# Altium footprint library SparkFun-MicroMod.PCBLIB: 11 footprints
Each footprint in its own frame and in the unit in brackets; x right, y up, seen from the top. Pads: shape width x height; smd on the part's side, far side on the other; paste and mask are expansions set on the pad; w line width, h text height; cw(c..) or ccw(c..) is an arc to the next point about the centre after c.
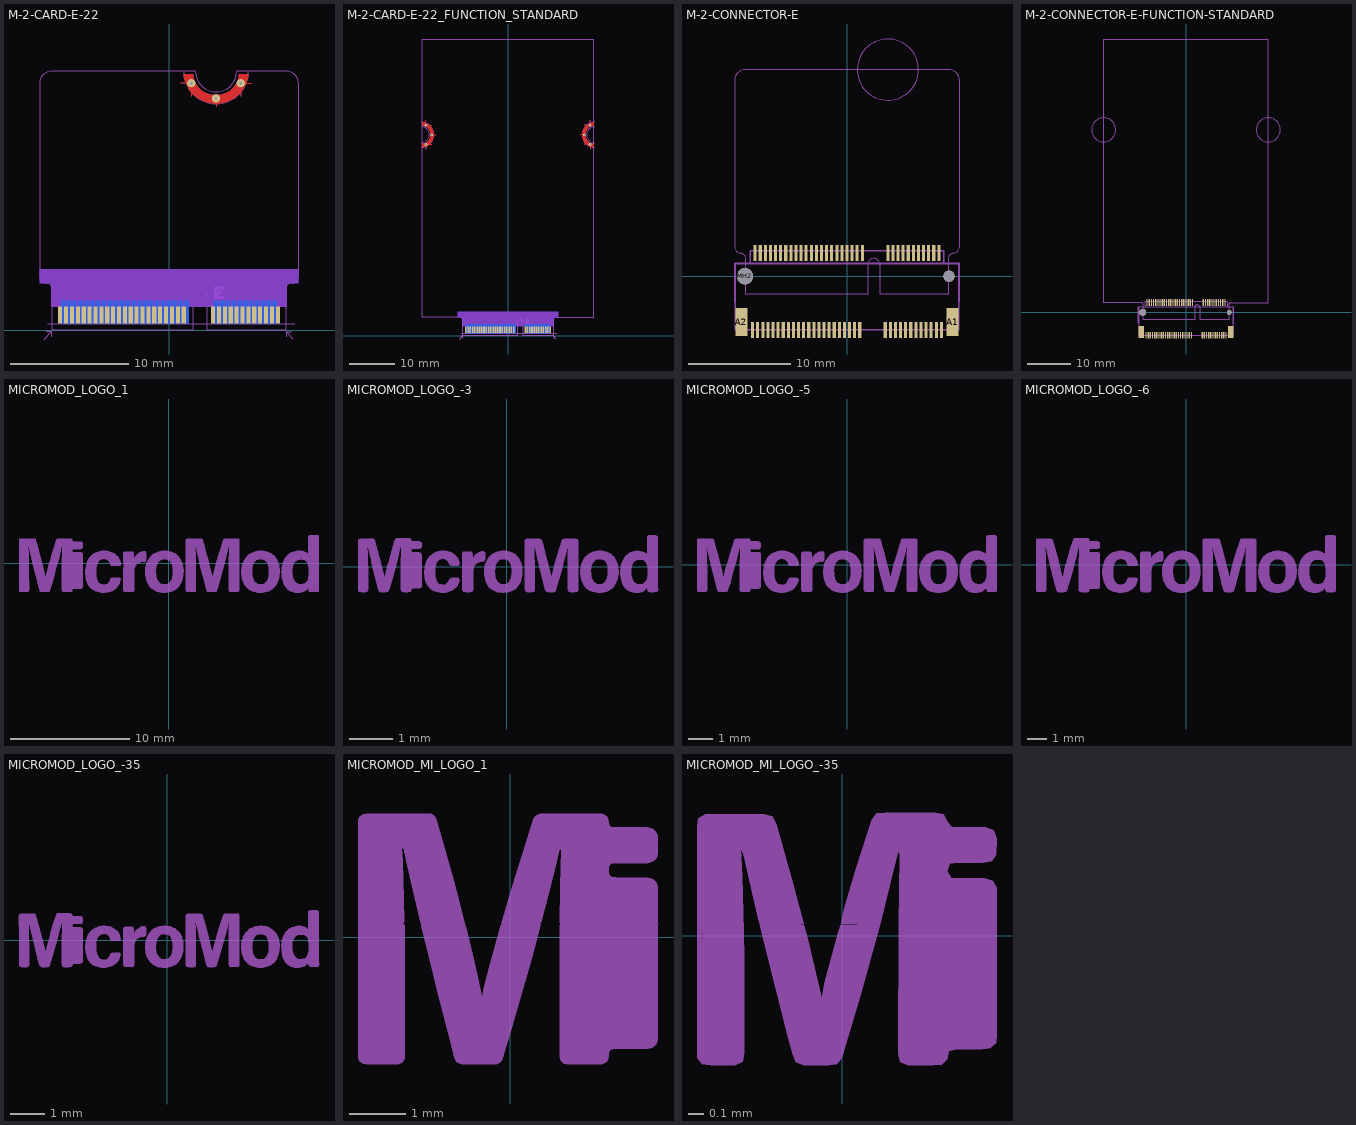
[diagram p0: the footprints below, top view; thin cyan lines are the x and y axes]

## M-2-CARD-E-22 [mm]
pads (70):
  rect 0.35x1.45 smd paste+0: 1(9.25,1.275) 3(8.75,1.275) 5(8.25,1.275) 7(7.75,1.275) 9(7.25,1.275) 11(6.75,1.275) 13(6.25,1.275) 15(5.75,1.275) 17(5.25,1.275) 19(4.75,1.275) 21(4.25,1.275) 23(3.75,1.275) 33(1.25,1.275) 35(0.75,1.275) 37(0.25,1.275) 39(-0.25,1.275) 41(-0.75,1.275) 43(-1.25,1.275) 45(-1.75,1.275) 47(-2.25,1.275) 49(-2.75,1.275) 51(-3.25,1.275) 53(-3.75,1.275) 55(-4.25,1.275) 57(-4.75,1.275) 59(-5.25,1.275) 61(-5.75,1.275) 63(-6.25,1.275) 65(-6.75,1.275) 67(-7.25,1.275) 69(-7.75,1.275) 71(-8.25,1.275) 73(-8.75,1.275) 75(-9.25,1.275)
  rect 0.35x1.95 smd far side paste+0: 2(9,1.525) 4(8.5,1.525) 6(8,1.525) 8(7.5,1.525) 10(7,1.525) 12(6.5,1.525) 14(6,1.525) 16(5.5,1.525) 18(5,1.525) 20(4.5,1.525) 22(4,1.525) 32(1.5,1.525) 34(1,1.525) 36(0.5,1.525) 38(0,1.525) 40(-0.5,1.525) 42(-1,1.525) 44(-1.5,1.525) 46(-2,1.525) 48(-2.5,1.525) 50(-3,1.525) 52(-3.5,1.525) 54(-4,1.525) 56(-4.5,1.525) 58(-5,1.525) 60(-5.5,1.525) 62(-6,1.525) 64(-6.5,1.525) 66(-7,1.525) 68(-7.5,1.525) 70(-8,1.525) 72(-8.5,1.525) 74(-9,1.525)
  round 0.708 hole 0.2: GND1(1.9,21) GND2(4,19.7) GND3(6.1,21)
Top:
  region: 1.25,21.75 2.05,21.75 2.069,21.569 2.159,21.217 2.316,20.89 2.533,20.599 2.804,20.356 3.116,20.171 3.459,20.051 3.818,19.999 4,20 4.182,19.999 4.541,20.051 4.884,20.171 5.196,20.356 5.467,20.599 5.684,20.89 5.841,21.217 5.931,21.569 5.95,21.75 6.75,21.75 6.723,21.497 6.579,21.008 6.348,20.553 6.04,20.148 5.662,19.805 5.23,19.536 4.755,19.35 4.255,19.253 4,19.25 3.745,19.251 3.243,19.345 2.767,19.53 2.332,19.799 1.955,20.142 1.646,20.549 1.417,21.005 1.275,21.496 1.25,21.75
  lines w0.102: 1,21 1.9,21 1.9,19.9 ; 4,19 4,19.7 ; 6.1,19.9 6.1,21 7,21
Top keep-out:
  region: 10,4 10,2 -10,2 -10,4
Bottom:
  region: 6.75,21.75 5.95,21.75 5.931,21.569 5.841,21.217 5.684,20.89 5.467,20.599 5.196,20.356 4.884,20.171 4.541,20.051 4.182,19.999 4,20 3.818,19.999 3.459,20.051 3.116,20.171 2.804,20.356 2.533,20.599 2.316,20.89 2.159,21.217 2.069,21.569 2.05,21.75 1.25,21.75 1.277,21.497 1.421,21.008 1.652,20.553 1.96,20.148 2.338,19.805 2.77,19.536 3.245,19.35 3.745,19.253 4,19.25 4.255,19.251 4.757,19.345 5.233,19.53 5.668,19.799 6.045,20.142 6.354,20.549 6.583,21.005 6.725,21.496 6.75,21.75
  lines w0.102: 1,21 1.9,21 1.9,19.9 ; 4,19 4,19.7 ; 6.1,19.9 6.1,21 7,21
Bottom keep-out:
  region: 10,4 10,2 -10,2 -10,4
  region: 11,5.2 11,4 -11,4 -11,5.2
Top Solder:
  region: 1.25,22 2.25,22 2.258,21.828 2.325,21.492 2.457,21.175 2.647,20.89 2.89,20.647 3.175,20.457 3.492,20.325 3.828,20.258 4,20.25 4.172,20.258 4.508,20.325 4.825,20.457 5.11,20.647 5.353,20.89 5.543,21.175 5.675,21.492 5.742,21.828 5.75,22 6.75,22 6.75,21.82 6.703,21.462 6.61,21.114 6.472,20.781 6.291,20.469 6.072,20.183 5.817,19.928 5.531,19.708 5.219,19.528 4.886,19.39 4.538,19.297 4.18,19.25 4,19.25 3.82,19.25 3.462,19.297 3.114,19.39 2.781,19.528 2.469,19.708 2.183,19.928 1.928,20.183 1.708,20.469 1.528,20.781 1.39,21.114 1.297,21.462 1.25,21.82 1.25,22
Bottom Solder:
  region: 6.75,22 5.75,22 5.742,21.828 5.675,21.492 5.543,21.175 5.353,20.89 5.11,20.647 4.825,20.457 4.508,20.325 4.172,20.258 4,20.25 3.828,20.258 3.492,20.325 3.175,20.457 2.89,20.647 2.647,20.89 2.457,21.175 2.325,21.492 2.258,21.828 2.25,22 1.25,22 1.25,21.82 1.297,21.462 1.39,21.114 1.528,20.781 1.708,20.469 1.928,20.183 2.183,19.928 2.469,19.708 2.781,19.528 3.114,19.39 3.462,19.297 3.82,19.25 4,19.25 4.18,19.25 4.538,19.297 4.886,19.39 5.219,19.528 5.531,19.708 5.817,19.928 6.072,20.183 6.291,20.469 6.472,20.781 6.61,21.114 6.703,21.462 6.75,21.82 6.75,22
Dimension:
  text "Route" at 4,21.525 h0.46
  text "Out" at 4,21.075 h0.46
Milling:
  lines w0.102: -10.62,-0.75 -10.02,-0.15 ; -10.42,-0.15 -10.02,-0.15 ; -10.02,-0.55 -10.02,-0.15 ; 9.98,-0.55 9.98,-0.15 ; 10.38,-0.15 9.98,-0.15 ; 10.58,-0.75 9.98,-0.15
  text "Chamfered edge" at -5.02,-0.95 h0.65
  text "0.8mm PCB" at -5.02,-2.22 h0.65
  text "Critical dimension" at -3,-4.5 h0.65
  text "Mill using correctly" at -3,-5.929 h0.65
  text "sized tool" at -3,-7.072 h0.65
tDocu:
  lines w0.02: -10.3,0.55 10.7,0.55
tPlace:
  region: 3.961,3.675 3.961,3.715 4.601,3.715 4.601,3.675
  region: 3.881,3.635 3.881,3.675 4.681,3.675 4.681,3.635
  region: 3.841,3.595 3.841,3.635 4.681,3.635 4.681,3.595
  region: 3.841,3.555 3.841,3.595 4.681,3.595 4.681,3.555
  region: 3.841,3.515 3.841,3.555 4.681,3.555 4.681,3.515
  region: 3.841,3.475 3.841,3.515 4.681,3.515 4.681,3.475
  region: 3.841,3.435 3.841,3.475 4.641,3.475 4.641,3.435
  region: 3.841,3.395 3.841,3.435 4.121,3.435 4.121,3.395
  region: 3.841,3.355 3.841,3.395 4.121,3.395 4.121,3.355
  region: 3.841,3.315 3.841,3.355 4.121,3.355 4.121,3.315
  region: 3.841,3.275 3.841,3.315 4.441,3.315 4.441,3.275
  region: 3.841,3.235 3.841,3.275 4.521,3.275 4.521,3.235
  region: 3.841,3.195 3.841,3.235 4.521,3.235 4.521,3.195
  region: 3.841,3.155 3.841,3.195 4.521,3.195 4.521,3.155
  region: 3.841,3.115 3.841,3.155 4.521,3.155 4.521,3.115
  region: 3.841,3.075 3.841,3.115 4.521,3.115 4.521,3.075
  region: 3.841,3.035 3.841,3.075 4.481,3.075 4.481,3.035
  region: 3.841,2.995 3.841,3.035 4.121,3.035 4.121,2.995
  region: 3.841,2.955 3.841,2.995 4.121,2.995 4.121,2.955
  region: 3.841,2.915 3.841,2.955 4.121,2.955 4.121,2.915
  region: 3.841,2.875 3.841,2.915 4.601,2.915 4.601,2.875
  region: 3.841,2.835 3.841,2.875 4.681,2.875 4.681,2.835
  region: 3.841,2.795 3.841,2.835 4.681,2.835 4.681,2.795
  region: 3.841,2.755 3.841,2.795 4.681,2.795 4.681,2.755
  region: 3.841,2.715 3.841,2.755 4.681,2.755 4.681,2.715
  region: 3.841,2.675 3.841,2.715 4.681,2.715 4.681,2.675
  region: 3.881,2.635 3.881,2.675 4.641,2.675 4.641,2.635
Measures:
  lines w0.05: -11,4.575 ccw(c-10.425,4.575) -10.425,4 ; -11,21 cw(c-10,21) -10,22 ; 10,22 cw(c10,21) 11,21 11,4.575 cw(c10.425,4.575) 10.425,4
  lines w0.051: -11,4.575 -11,21 ; -10.425,4 cw(c-10.425,3.5) -9.925,3.5 -9.925,0 2.025,0 2.025,2.9 cw(c2.625,2.9) 3.225,2.9 3.225,0 9.925,0 9.925,3.5 cw(c10.425,3.5) 10.425,4 ; -10,22 2.25,22 ; 1.25,22 ccw(c4,22) 6.75,22 ; 10,22 5.75,22 ; 2.25,22 ccw(c4,22) 5.75,22 ; 2.25,22 ccw(c4,22) 5.75,22
  text "2222" at 0,21 h0.46

## M-2-CARD-E-22_FUNCTION_STANDARD [mm]
pads (73):
  rect 0.35x1.45 smd paste+0: 1(9.25,1.275) 3(8.75,1.275) 5(8.25,1.275) 7(7.75,1.275) 9(7.25,1.275) 11(6.75,1.275) 13(6.25,1.275) 15(5.75,1.275) 17(5.25,1.275) 19(4.75,1.275) 21(4.25,1.275) 23(3.75,1.275) 33(1.25,1.275) 35(0.75,1.275) 37(0.25,1.275) 39(-0.25,1.275) 41(-0.75,1.275) 43(-1.25,1.275) 45(-1.75,1.275) 47(-2.25,1.275) 49(-2.75,1.275) 51(-3.25,1.275) 53(-3.75,1.275) 55(-4.25,1.275) 57(-4.75,1.275) 59(-5.25,1.275) 61(-5.75,1.275) 63(-6.25,1.275) 65(-6.75,1.275) 67(-7.25,1.275) 69(-7.75,1.275) 71(-8.25,1.275) 73(-8.75,1.275) 75(-9.25,1.275)
  rect 0.35x1.95 smd far side paste+0: 2(9,1.525) 4(8.5,1.525) 6(8,1.525) 8(7.5,1.525) 10(7,1.525) 12(6.5,1.525) 14(6,1.525) 16(5.5,1.525) 18(5,1.525) 20(4.5,1.525) 22(4,1.525) 32(1.5,1.525) 34(1,1.525) 36(0.5,1.525) 38(0,1.525) 40(-0.5,1.525) 42(-1,1.525) 44(-1.5,1.525) 46(-2,1.525) 48(-2.5,1.525) 50(-3,1.525) 52(-3.5,1.525) 54(-4,1.525) 56(-4.5,1.525) 58(-5,1.525) 60(-5.5,1.525) 62(-6,1.525) 64(-6.5,1.525) 66(-7,1.525) 68(-7.5,1.525) 70(-8,1.525) 72(-8.5,1.525) 74(-9,1.525)
  round 0.61 hole 0.305: GND1(-18,41.9) GND2(-16.7,44) GND3(-18,46.1) GND4(18,41.9) GND5(16.7,44) GND6(18,46.1)
Top:
  region: 18.75,46.75 18.75,46 18.567,45.979 18.211,45.883 17.881,45.72 17.589,45.495 17.346,45.218 17.162,44.899 17.044,44.55 16.997,44.184 17,44 16.997,43.816 17.044,43.45 17.162,43.101 17.346,42.782 17.589,42.505 17.881,42.28 18.211,42.117 18.567,42.021 18.75,42 18.75,41.25 18.497,41.277 18.008,41.421 17.553,41.652 17.148,41.961 16.805,42.338 16.536,42.77 16.35,43.245 16.253,43.745 16.25,44 16.251,44.255 16.345,44.757 16.53,45.233 16.799,45.668 17.142,46.045 17.549,46.354 18.005,46.583 18.496,46.725 18.75,46.75
  region: -18.75,41.25 -18.75,42 -18.567,42.021 -18.211,42.117 -17.881,42.28 -17.589,42.505 -17.346,42.782 -17.162,43.101 -17.044,43.45 -16.997,43.816 -17,44 -16.997,44.184 -17.044,44.55 -17.162,44.899 -17.346,45.218 -17.589,45.495 -17.881,45.72 -18.211,45.883 -18.567,45.979 -18.75,46 -18.75,46.75 -18.497,46.723 -18.008,46.579 -17.553,46.348 -17.148,46.039 -16.805,45.662 -16.536,45.229 -16.35,44.755 -16.253,44.255 -16.25,44 -16.251,43.745 -16.345,43.243 -16.53,42.767 -16.799,42.332 -17.142,41.955 -17.549,41.646 -18.005,41.417 -18.496,41.275 -18.75,41.25
  lines w0.203: -18,40.8 -18,41.9 -16.7,41.9 ; -18,47.2 -18,46.1 -16.7,46.1 ; -16.7,44 -15.8,44 ; 15.8,44 16.7,44 ; 16.7,41.9 18,41.9 18,40.8 ; 16.7,46.1 18,46.1 18,47.2
Top keep-out:
  region: 10,4 10,2 -10,2 -10,4
Bottom:
  region: 18.75,41.25 18.75,42 18.567,42.021 18.211,42.117 17.881,42.28 17.589,42.505 17.346,42.782 17.162,43.101 17.044,43.45 16.997,43.816 17,44 16.997,44.184 17.044,44.55 17.162,44.899 17.346,45.218 17.589,45.495 17.881,45.72 18.211,45.883 18.567,45.979 18.75,46 18.75,46.75 18.497,46.723 18.008,46.579 17.553,46.348 17.148,46.039 16.805,45.662 16.536,45.229 16.35,44.755 16.253,44.255 16.25,44 16.251,43.745 16.345,43.243 16.53,42.767 16.799,42.332 17.142,41.955 17.549,41.646 18.005,41.417 18.496,41.275 18.75,41.25
  region: -18.75,46.75 -18.75,46 -18.567,45.979 -18.211,45.883 -17.881,45.72 -17.589,45.495 -17.346,45.218 -17.162,44.899 -17.044,44.55 -16.997,44.184 -17,44 -16.997,43.816 -17.044,43.45 -17.162,43.101 -17.346,42.782 -17.589,42.505 -17.881,42.28 -18.211,42.117 -18.567,42.021 -18.75,42 -18.75,41.25 -18.497,41.277 -18.008,41.421 -17.553,41.652 -17.148,41.961 -16.805,42.338 -16.536,42.77 -16.35,43.245 -16.253,43.745 -16.25,44 -16.251,44.255 -16.345,44.757 -16.53,45.233 -16.799,45.668 -17.142,46.045 -17.549,46.354 -18.005,46.583 -18.496,46.725 -18.75,46.75
  lines w0.203: -18,40.8 -18,41.9 -16.7,41.9 ; -18,47.2 -18,46.1 -16.7,46.1 ; -16.7,44 -15.8,44 ; 15.8,44 16.7,44 ; 16.7,41.9 18,41.9 18,40.8 ; 16.7,46.1 18,46.1 18,47.2
Bottom keep-out:
  region: 10,4 10,2 -10,2 -10,4
  region: 11,5.2 11,4 -11,4 -11,5.2
Top Solder:
  region: 19,46.75 19,45.75 18.828,45.742 18.492,45.675 18.175,45.543 17.89,45.353 17.647,45.11 17.457,44.825 17.325,44.508 17.258,44.171 17.25,44 17.258,43.828 17.325,43.492 17.457,43.175 17.647,42.89 17.89,42.647 18.175,42.457 18.492,42.325 18.828,42.259 19,42.25 19,41.25 18.82,41.25 18.462,41.297 18.114,41.39 17.781,41.528 17.469,41.709 17.183,41.928 16.928,42.183 16.709,42.469 16.528,42.781 16.39,43.114 16.297,43.462 16.25,43.82 16.25,44 16.25,44.18 16.297,44.538 16.39,44.886 16.528,45.219 16.708,45.531 16.928,45.817 17.183,46.072 17.469,46.291 17.781,46.472 18.114,46.61 18.462,46.703 18.82,46.75 19,46.75
  region: -19,41.25 -19,42.25 -18.828,42.259 -18.492,42.325 -18.175,42.457 -17.89,42.647 -17.647,42.89 -17.457,43.175 -17.325,43.492 -17.258,43.828 -17.25,44 -17.258,44.171 -17.325,44.508 -17.457,44.825 -17.647,45.11 -17.89,45.353 -18.175,45.543 -18.492,45.675 -18.828,45.742 -19,45.75 -19,46.75 -18.82,46.75 -18.462,46.703 -18.114,46.61 -17.781,46.472 -17.469,46.291 -17.183,46.072 -16.928,45.817 -16.708,45.531 -16.528,45.219 -16.39,44.886 -16.297,44.538 -16.25,44.18 -16.25,44 -16.25,43.82 -16.297,43.462 -16.39,43.114 -16.528,42.781 -16.709,42.469 -16.928,42.183 -17.183,41.928 -17.469,41.709 -17.781,41.528 -18.114,41.39 -18.462,41.297 -18.82,41.25 -19,41.25
Bottom Solder:
  region: -19,41.25 -19,42.25 -18.828,42.259 -18.492,42.325 -18.175,42.457 -17.89,42.647 -17.647,42.89 -17.457,43.175 -17.325,43.492 -17.258,43.828 -17.25,44 -17.258,44.171 -17.325,44.508 -17.457,44.825 -17.647,45.11 -17.89,45.353 -18.175,45.543 -18.492,45.675 -18.828,45.742 -19,45.75 -19,46.75 -18.82,46.75 -18.462,46.703 -18.114,46.61 -17.781,46.472 -17.469,46.291 -17.183,46.072 -16.928,45.817 -16.708,45.531 -16.528,45.219 -16.39,44.886 -16.297,44.538 -16.25,44.18 -16.25,44 -16.25,43.82 -16.297,43.462 -16.39,43.114 -16.528,42.781 -16.709,42.469 -16.928,42.183 -17.183,41.928 -17.469,41.709 -17.781,41.528 -18.114,41.39 -18.462,41.297 -18.82,41.25 -19,41.25
  region: 19,46.75 19,45.75 18.828,45.742 18.492,45.675 18.175,45.543 17.89,45.353 17.647,45.11 17.457,44.825 17.325,44.508 17.258,44.171 17.25,44 17.258,43.828 17.325,43.492 17.457,43.175 17.647,42.89 17.89,42.647 18.175,42.457 18.492,42.325 18.828,42.259 19,42.25 19,41.25 18.82,41.25 18.462,41.297 18.114,41.39 17.781,41.528 17.469,41.709 17.183,41.928 16.928,42.183 16.709,42.469 16.528,42.781 16.39,43.114 16.297,43.462 16.25,43.82 16.25,44 16.25,44.18 16.297,44.538 16.39,44.886 16.528,45.219 16.708,45.531 16.928,45.817 17.183,46.072 17.469,46.291 17.781,46.472 18.114,46.61 18.462,46.703 18.82,46.75 19,46.75
Dimension:
  lines w0.05: -18.747,45.733 cw(c-19.001,44.002) -18.745,42.271 ; 18.744,45.731 ccw(c18.996,44.001) 18.748,42.27
  text "Route" at 17.821,44 h0.46
  text "Out" at 18.271,44 h0.46
  text "Route" at -17.821,44 h0.46
  text "Out" at -18.271,44 h0.46
Milling:
  lines w0.102: -10.62,-0.75 -10.02,-0.15 ; -10.42,-0.15 -10.02,-0.15 ; -10.02,-0.55 -10.02,-0.15 ; 9.98,-0.55 9.98,-0.15 ; 10.38,-0.15 9.98,-0.15 ; 10.58,-0.75 9.98,-0.15
  text "Chamfered edge" at -5.02,-0.95 h0.65
  text "0.8mm PCB" at -5.02,-2.22 h0.65
  text "Critical dimension" at -3,-4.5 h0.65
  text "Mill using correctly" at -3,-5.929 h0.65
  text "sized tool" at -3,-7.072 h0.65
tDocu:
  lines w0.02: -10.3,0.55 10.7,0.55
  lines w0.051: -18.746,4 -10.425,4 cw(c-10.425,3.5) -9.925,3.5 -9.925,0 2.025,0 2.025,2.9 cw(c2.625,2.9) 3.225,2.9 3.225,0 9.925,0 9.925,3.5 cw(c10.425,3.5) 10.425,4 18.746,4 18.746,65 -18.746,65 -18.746,4
tPlace:
  region: 3.961,3.675 3.961,3.715 4.601,3.715 4.601,3.675
  region: 3.881,3.635 3.881,3.675 4.681,3.675 4.681,3.635
  region: 3.841,3.595 3.841,3.635 4.681,3.635 4.681,3.595
  region: 3.841,3.555 3.841,3.595 4.681,3.595 4.681,3.555
  region: 3.841,3.515 3.841,3.555 4.681,3.555 4.681,3.515
  region: 3.841,3.475 3.841,3.515 4.681,3.515 4.681,3.475
  region: 3.841,3.435 3.841,3.475 4.641,3.475 4.641,3.435
  region: 3.841,3.395 3.841,3.435 4.121,3.435 4.121,3.395
  region: 3.841,3.355 3.841,3.395 4.121,3.395 4.121,3.355
  region: 3.841,3.315 3.841,3.355 4.121,3.355 4.121,3.315
  region: 3.841,3.275 3.841,3.315 4.441,3.315 4.441,3.275
  region: 3.841,3.235 3.841,3.275 4.521,3.275 4.521,3.235
  region: 3.841,3.195 3.841,3.235 4.521,3.235 4.521,3.195
  region: 3.841,3.155 3.841,3.195 4.521,3.195 4.521,3.155
  region: 3.841,3.115 3.841,3.155 4.521,3.155 4.521,3.115
  region: 3.841,3.075 3.841,3.115 4.521,3.115 4.521,3.075
  region: 3.841,3.035 3.841,3.075 4.481,3.075 4.481,3.035
  region: 3.841,2.995 3.841,3.035 4.121,3.035 4.121,2.995
  region: 3.841,2.955 3.841,2.995 4.121,2.995 4.121,2.955
  region: 3.841,2.915 3.841,2.955 4.121,2.955 4.121,2.915
  region: 3.841,2.875 3.841,2.915 4.601,2.915 4.601,2.875
  region: 3.841,2.835 3.841,2.875 4.681,2.875 4.681,2.835
  region: 3.841,2.795 3.841,2.835 4.681,2.835 4.681,2.795
  region: 3.841,2.755 3.841,2.795 4.681,2.795 4.681,2.755
  region: 3.841,2.715 3.841,2.755 4.681,2.755 4.681,2.715
  region: 3.841,2.675 3.841,2.715 4.681,2.715 4.681,2.675
  region: 3.881,2.635 3.881,2.675 4.641,2.675 4.641,2.635
Measures:
  lines w0.051: -19,41.25 ccw(c-19,44) -19,46.75 ; -19,42.25 ccw(c-19,44) -19,45.75 ; 19,41.25 cw(c19,44) 19,46.75 ; 19,42.25 cw(c19,44) 19,45.75

## M-2-CONNECTOR-E [mm]
pads (71):
  rect 0.3x1.55 smd paste+0: 1(9.25,-5.275) 2(9,2.275) 3(8.75,-5.275) 4(8.5,2.275) 5(8.25,-5.275) 6(8,2.275) 7(7.75,-5.275) 8(7.5,2.275) 9(7.25,-5.275) 10(7,2.275) 11(6.75,-5.275) 12(6.5,2.275) 13(6.25,-5.275) 14(6,2.275) 15(5.75,-5.275) 16(5.5,2.275) 17(5.25,-5.275) 18(5,2.275) 19(4.75,-5.275) 20(4.5,2.275) 21(4.25,-5.275) 22(4,2.275) 23(3.75,-5.275) 32(1.5,2.275) 33(1.25,-5.275) 34(1,2.275) 35(0.75,-5.275) 36(0.5,2.275) 37(0.25,-5.275) 38(0,2.275) 39(-0.25,-5.275) 40(-0.5,2.275) 41(-0.75,-5.275) 42(-1,2.275) 43(-1.25,-5.275) 44(-1.5,2.275) 45(-1.75,-5.275) 46(-2,2.275) 47(-2.25,-5.275) 48(-2.5,2.275) 49(-2.75,-5.275) 50(-3,2.275) 51(-3.25,-5.275) 52(-3.5,2.275) 53(-3.75,-5.275) 54(-4,2.275) 55(-4.25,-5.275) 56(-4.5,2.275) 57(-4.75,-5.275) 58(-5,2.275) 59(-5.25,-5.275) 60(-5.5,2.275) 61(-5.75,-5.275) 62(-6,2.275) 63(-6.25,-5.275) 64(-6.5,2.275) 65(-6.75,-5.275) 66(-7,2.275) 67(-7.25,-5.275) 68(-7.5,2.275) 69(-7.75,-5.275) 70(-8,2.275) 71(-8.25,-5.275) 72(-8.5,2.275) 73(-8.75,-5.275) 74(-9,2.275) 75(-9.25,-5.275)
  rect 1.2x2.75 smd: A1(10.35,-4.5) A2(-10.35,-4.5)
  round 1.1 hole 1.1 unplated: MH1(10,0)
  round 1.6 hole 1.6 unplated: MH2(-10,0)
Top Paste:
  drawing of 67 lines, arcs and shapes, not listed
tDocu:
  circle w0.05: c4,20.25 r3
  lines w0.05: -11,2.85 ccw(c-10.383,2.867) -10.4,2.25 ; -11,19.25 cw(c-9.975,19.225) -10,20.25 ; 10,20.25 cw(c9.975,19.225) 11,19.25 11,2.85 cw(c10.383,2.867) 10.4,2.25
  lines w0.051: -11,2.85 -11,19.25 ; -10.4,2.25 cw(c-10.441,1.735) -9.925,1.75 -9.925,-1.75 2.025,-1.75 2.025,1.15 cw(c2.625,1.15) 3.225,1.15 3.225,-1.75 9.925,-1.75 9.925,1.75 cw(c10.436,1.741) 10.4,2.25 ; -10,20.25 10,20.25
  lines w0.152: -9.5,1.25 9.5,1.25 ; -9.5,1.25 -10.95,1.25 -10.95,-5.25 10.95,-5.25 10.95,1.25 9.5,1.25 ; -9.5,1.25 -9.5,2.5 9.5,2.5 9.5,1.25
tPlace:
  lines w0.152: -11,-2.5 -11,1.25 -9.5,1.25 ; 9.5,1.25 11,1.25 11,-2.5

## M-2-CONNECTOR-E-FUNCTION-STANDARD [mm]
pads (71):
  rect 0.3x1.55 smd paste+0: 1(9.25,-5.275) 2(9,2.275) 3(8.75,-5.275) 4(8.5,2.275) 5(8.25,-5.275) 6(8,2.275) 7(7.75,-5.275) 8(7.5,2.275) 9(7.25,-5.275) 10(7,2.275) 11(6.75,-5.275) 12(6.5,2.275) 13(6.25,-5.275) 14(6,2.275) 15(5.75,-5.275) 16(5.5,2.275) 17(5.25,-5.275) 18(5,2.275) 19(4.75,-5.275) 20(4.5,2.275) 21(4.25,-5.275) 22(4,2.275) 23(3.75,-5.275) 32(1.5,2.275) 33(1.25,-5.275) 34(1,2.275) 35(0.75,-5.275) 36(0.5,2.275) 37(0.25,-5.275) 38(0,2.275) 39(-0.25,-5.275) 40(-0.5,2.275) 41(-0.75,-5.275) 42(-1,2.275) 43(-1.25,-5.275) 44(-1.5,2.275) 45(-1.75,-5.275) 46(-2,2.275) 47(-2.25,-5.275) 48(-2.5,2.275) 49(-2.75,-5.275) 50(-3,2.275) 51(-3.25,-5.275) 52(-3.5,2.275) 53(-3.75,-5.275) 54(-4,2.275) 55(-4.25,-5.275) 56(-4.5,2.275) 57(-4.75,-5.275) 58(-5,2.275) 59(-5.25,-5.275) 60(-5.5,2.275) 61(-5.75,-5.275) 62(-6,2.275) 63(-6.25,-5.275) 64(-6.5,2.275) 65(-6.75,-5.275) 66(-7,2.275) 67(-7.25,-5.275) 68(-7.5,2.275) 69(-7.75,-5.275) 70(-8,2.275) 71(-8.25,-5.275) 72(-8.5,2.275) 73(-8.75,-5.275) 74(-9,2.275) 75(-9.25,-5.275)
  rect 1.2x2.75 smd: A1(10.35,-4.5) A2(-10.35,-4.5)
  round 1.1 hole 1.1 unplated: MH1(10,0)
  round 1.6 hole 1.6 unplated: MH2(-10,0)
Top Paste:
  drawing of 67 lines, arcs and shapes, not listed
tDocu:
  circle w0.051: c-19.05,42.245 r2.778
  circle w0.051: c19.05,42.245 r2.778
  lines w0.051: 2.025,-1.75 2.025,1.15 cw(c2.625,1.15) 3.225,1.15 3.225,-1.75 ; 2.03,-1.75 -9.92,-1.75 -9.92,1.75 ccw(c-10.452,1.745) -10.4,2.275 -19.05,2.275 -19.05,63.25 -12.7,63.25 12.7,63.25 19.05,63.25 19.05,2.275 10.4,2.275 ccw(c10.447,1.75) 9.92,1.75 9.92,-1.75 ; 3.23,-1.75 9.93,-1.75
  lines w0.152: -9.5,1.25 9.5,1.25 ; -9.5,1.25 -10.95,1.25 -10.95,-5.25 10.95,-5.25 10.95,1.25 9.5,1.25 ; -9.5,1.25 -9.5,2.5 9.5,2.5 9.5,1.25
tPlace:
  lines w0.152: -11,-2.5 -11,1.25 -9.5,1.25 ; 9.5,1.25 11,1.25 11,-2.5

## MICROMOD_LOGO_1 [mm]
tPlace:
  drawing of 20 lines, arcs and shapes, not listed

## MICROMOD_LOGO_-3 [mm]
tPlace:
  drawing of 20 lines, arcs and shapes, not listed

## MICROMOD_LOGO_-5 [mm]
tPlace:
  drawing of 20 lines, arcs and shapes, not listed

## MICROMOD_LOGO_-6 [mm]
tPlace:
  drawing of 20 lines, arcs and shapes, not listed

## MICROMOD_LOGO_-35 [mm]
tPlace:
  drawing of 20 lines, arcs and shapes, not listed

## MICROMOD_MI_LOGO_1 [mm]
tPlace:
  drawing of 5 lines, arcs and shapes, not listed

## MICROMOD_MI_LOGO_-35 [mm]
tPlace:
  region: -0.91,0.071 -0.909,-0.768 -0.878,-0.807 -0.826,-0.811 -0.669,-0.811 -0.624,-0.788 -0.615,-0.738 -0.615,-0.162 -0.617,0.048 -0.648,0.071
  region: 0.971,0.071 0.389,0.071 0.356,0.076 0.353,-0.742 0.366,-0.792 0.413,-0.811 0.572,-0.811 0.624,-0.809 0.66,-0.774 0.671,-0.723 0.72,-0.711 0.879,-0.711 0.931,-0.706 0.967,-0.669 0.972,-0.617 0.972,0.018
  region: -0.006,0.076 0.2,0.071 0.233,0.049 0.306,0.342 0.343,0.496 0.36,0.541 0.363,0.493 0.358,0.282 0.355,0.071 0.937,0.071 0.971,0.073 0.97,0.301 0.946,0.347 0.897,0.362 0.685,0.363 0.661,0.405 0.676,0.452 0.728,0.457 0.887,0.457 0.938,0.467 0.969,0.508 0.971,0.614 0.951,0.661 0.903,0.681 0.692,0.681 0.661,0.717 0.639,0.762 0.588,0.772 0.271,0.772 0.218,0.768 0.185,0.729 0.091,0.426 0.014,0.173 0.004,0.127
  region: -0.239,0.071 -0.52,0.088 -0.506,0.029 -0.417,-0.332 -0.338,-0.641 -0.31,-0.744 -0.292,-0.793 -0.244,-0.811 -0.084,-0.811 -0.032,-0.807 0,-0.766 0.12,-0.358 0.233,0.052 0.205,0.071 -0.008,0.071 -0.024,0.022 -0.081,-0.183 -0.107,-0.287 -0.129,-0.39 -0.199,-0.084 -0.224,0.02
  region: -0.859,0.762 -0.903,0.737 -0.91,0.685 -0.909,0.07 -0.887,0.07 -0.617,0.05 -0.619,0.12 -0.624,0.279 -0.63,0.438 -0.637,0.544 -0.616,0.506 -0.582,0.351 -0.522,0.092 -0.486,0.07 -0.274,0.07 -0.241,0.075 -0.313,0.346 -0.384,0.602 -0.414,0.704 -0.437,0.75 -0.487,0.763